# EAGLE library part KEYPAD_12K (library Dek)
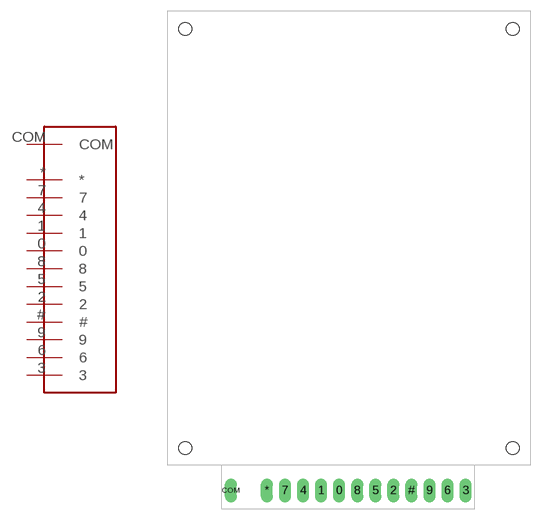
[diagram p5: symbol with the pads of KEYPAD_12K; footprint KEYPAD_12K]

Designator prefix -

## KEYPAD_12KGENERIC  [KEYPAD_12K]
0  0  out
1  1  out
2  2  out
3  3  out
4  4  out
5  5  out
6  6  out
7  7  out
8  8  out
9  9  out
#  #  out
*  *  out
COM  COM  in

## Footprint KEYPAD_12K (pad centres in mm)
drill 1.118 long: 0 24.13,-1.505; 1 21.59,-1.505; 2 31.75,-1.505; 3 41.91,-1.505; 4 19.05,-1.505; 5 29.21,-1.505; 6 39.37,-1.505; 7 16.51,-1.505; 8 26.67,-1.505; 9 36.83,-1.505; # 34.29,-1.505; * 13.97,-1.505; COM 8.89,-1.505
hole 1.778 at 2.47,4.47
hole 1.778 at 48.53,4.47
hole 1.778 at 48.53,63.455
hole 1.778 at 2.47,63.455